# EAGLE library part OUT_HEAD_6_AC_4CH (library rx)
Multi connection point. Often used as Generic Header-pin footprint for 0.1 inch spaced/style header connections On any of the 0.1 inch spaced packages, you can populate with these: Break Away Headers - Straight <https://www.sparkfun.com/products/116> (PRT-00116) Break Away Male Headers - Right Angle <https://www.sparkfun.com/products/553> (PRT-00553) Female Headers <https://www.sparkfun.com/products/115> (PRT-00115) Break Away Headers - Machine Pin <https://www.sparkfun.com/products/117> (PRT-00117) Break Away Female Headers - Swiss Machine Pin <https://www.sparkfun.com/products/743> (PRT-00743)
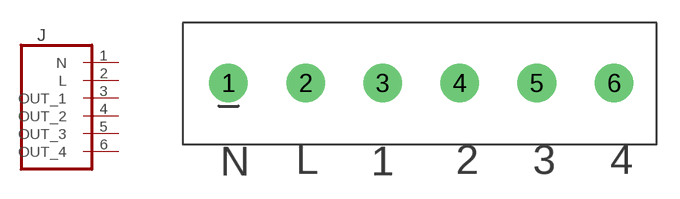
[diagram p7: symbol with the pads of OUT_HEAD_6_AC_4CH; footprint OUT_HEAD_6_AC_4CH]

Designator prefix J

## OUT_HEAD_6_AC_4CH  [OUT_HEAD_6_AC_4CH]
1  N
2  L
3  OUT_1
4  OUT_2
5  OUT_3
6  OUT_4

## Footprint OUT_HEAD_6_AC_4CH (pad centres in mm)
Plated Through Hole - 2x4 Specifications: Pin count:8 Pin pitch:0.1" Example device(s): CONN_04x2
drill 1.6 pad 2.54: 1 -7.14,0.22; 2 -2.06,0.22; 3 3.02,0.22; 4 8.1,0.22; 5 13.18,0.22; 6 18.26,0.22